# EAGLE library part D36V50FX (library D36V50Fx)
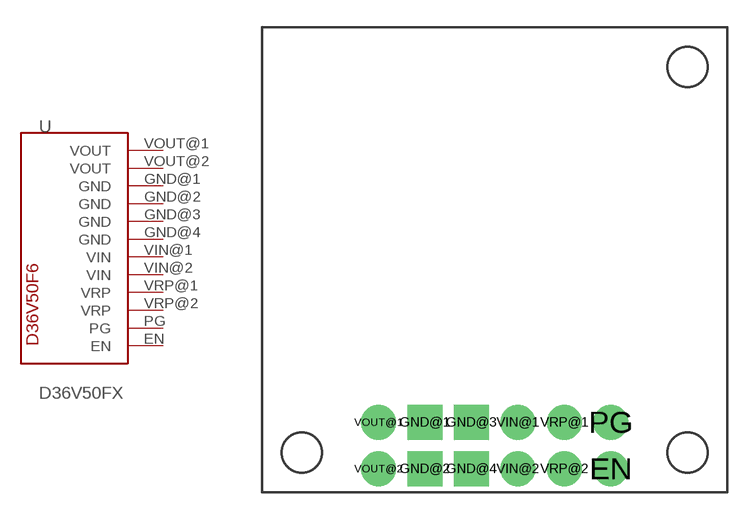
[diagram p0: symbol with the pads of D36V50FX; footprint D36V50FX]

Designator prefix -

## D36V50FX  [D36V50FX]
EN  EN
GND@1  GND
GND@2  GND
GND@3  GND
GND@4  GND
PG  PG
VIN@1  VIN
VIN@2  VIN
VOUT@1  VOUT
VOUT@2  VOUT
VRP@1  VRP
VRP@2  VRP

## Footprint D36V50FX (pad centres in mm)
drill 1.016 pad 1.93: EN 19.05,1.27; PG 19.05,3.81; VIN@1 13.97,3.81; VIN@2 13.97,1.27; VOUT@1 6.35,3.81; VOUT@2 6.35,1.27; VRP@1 16.51,3.81; VRP@2 16.51,1.27
drill 1.016 pad 1.93 square: GND@1 8.89,3.81; GND@2 8.89,1.27; GND@3 11.43,3.81; GND@4 11.43,1.27